# Altium footprint library ST Microcontroller 8-Bit.PcbLib: 97 footprints (part 4 of 7)
Each footprint in its own frame and in the unit in brackets; x right, y up, seen from the top. Pads: shape width x height; smd on the part's side, far side on the other; paste and mask are expansions set on the pad; w line width, h text height; cw(c..) or ccw(c..) is an arc to the next point about the centre after c.
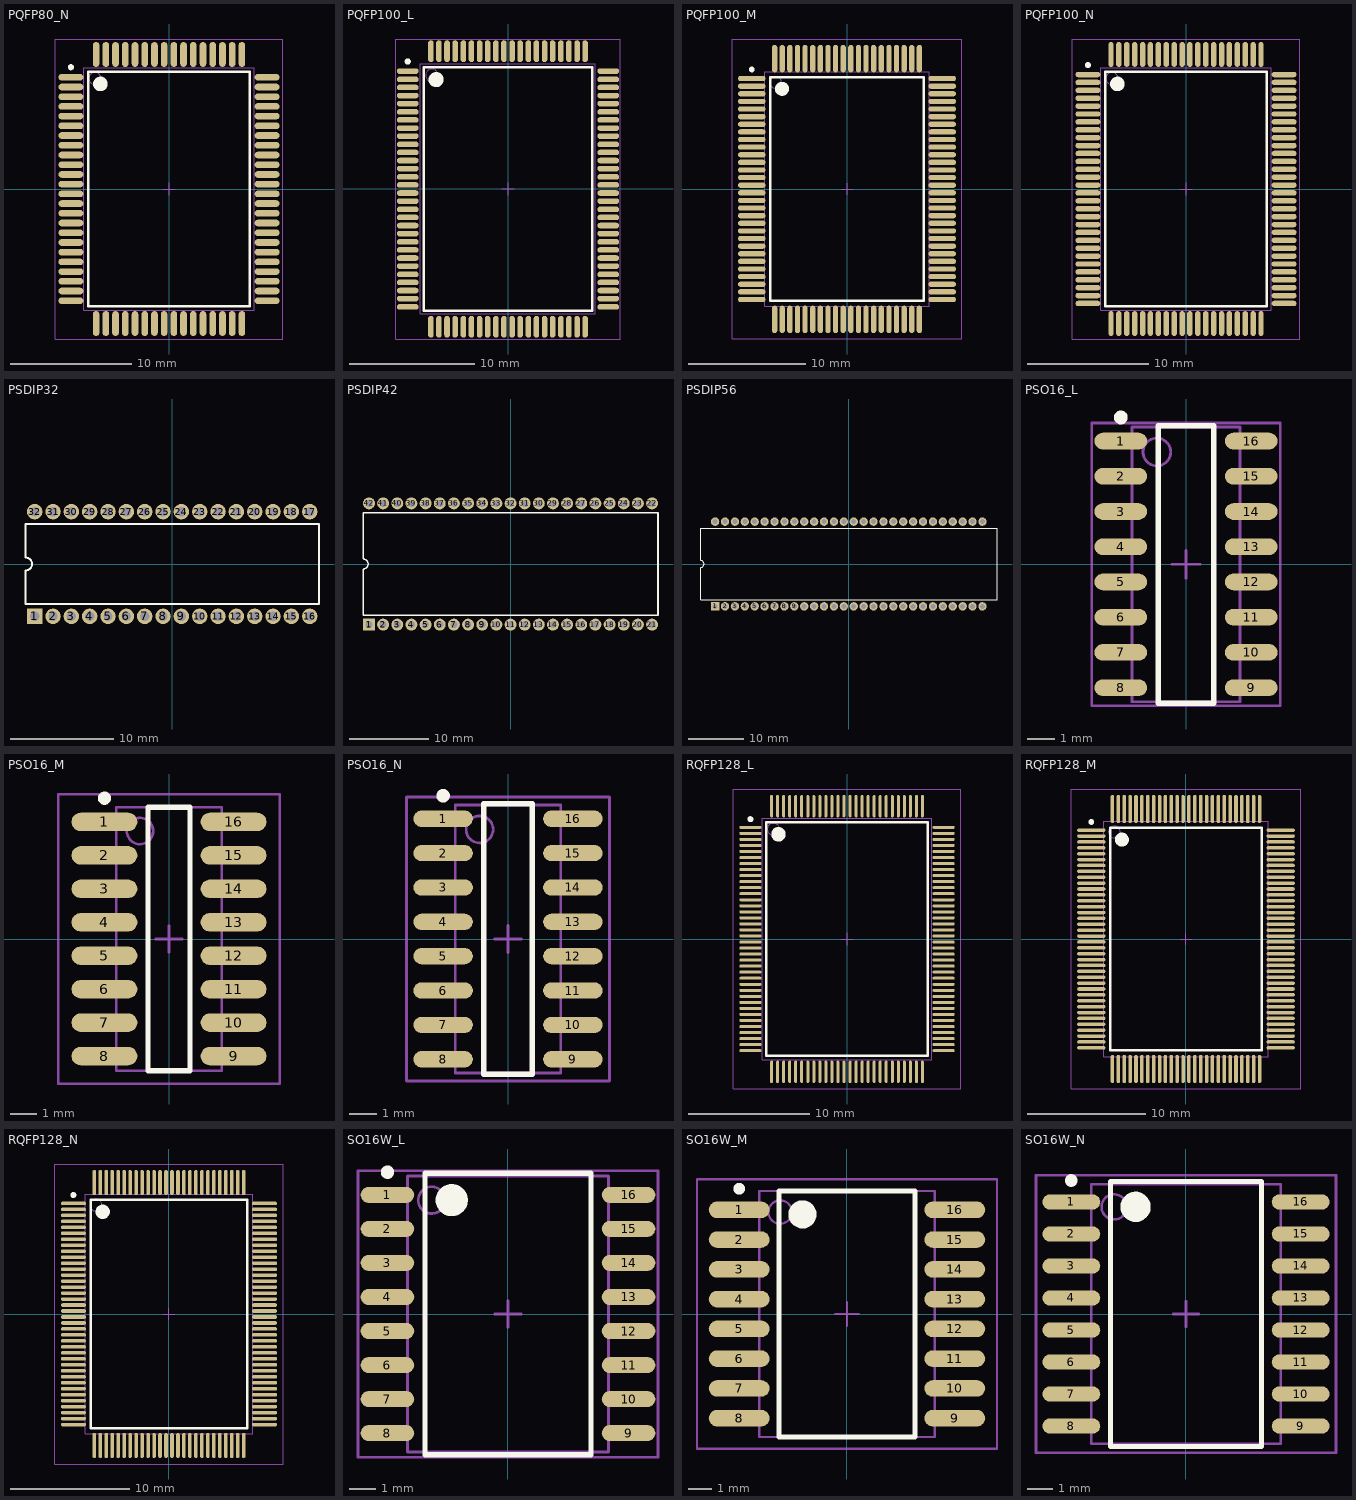
[diagram p3: the footprints below, top view; thin cyan lines are the x and y axes]

## PQFP80_N [mm] "QFP, 80-Leads, Body 20x14mm, Pitch 0.8mm, IPC Medium Density"
height 3.4
pads (80):
  oval 2.05x0.55 smd: 1(-8.075,9.2) 2(-8.075,8.4) 3(-8.075,7.6) 4(-8.075,6.8) 5(-8.075,6) 6(-8.075,5.2) 7(-8.075,4.4) 8(-8.075,3.6) 9(-8.075,2.8) 10(-8.075,2) 11(-8.075,1.2) 12(-8.075,0.4) 13(-8.075,-0.4) 14(-8.075,-1.2) 15(-8.075,-2) 16(-8.075,-2.8) 17(-8.075,-3.6) 18(-8.075,-4.4) 19(-8.075,-5.2) 20(-8.075,-6) 21(-8.075,-6.8) 22(-8.075,-7.6) 23(-8.075,-8.4) 24(-8.075,-9.2) 41(8.075,-9.2) 42(8.075,-8.4) 43(8.075,-7.6) 44(8.075,-6.8) 45(8.075,-6) 46(8.075,-5.2) 47(8.075,-4.4) 48(8.075,-3.6) 49(8.075,-2.8) 50(8.075,-2) 51(8.075,-1.2) 52(8.075,-0.4) 53(8.075,0.4) 54(8.075,1.2) 55(8.075,2) 56(8.075,2.8) 57(8.075,3.6) 58(8.075,4.4) 59(8.075,5.2) 60(8.075,6) 61(8.075,6.8) 62(8.075,7.6) 63(8.075,8.4) 64(8.075,9.2)
  oval 0.55x2.05 smd: 25(-6,-11.075) 26(-5.2,-11.075) 27(-4.4,-11.075) 28(-3.6,-11.075) 29(-2.8,-11.075) 30(-2,-11.075) 31(-1.2,-11.075) 32(-0.4,-11.075) 33(0.4,-11.075) 34(1.2,-11.075) 35(2,-11.075) 36(2.8,-11.075) 37(3.6,-11.075) 38(4.4,-11.075) 39(5.2,-11.075) 40(6,-11.075) 65(6,11.075) 66(5.2,11.075) 67(4.4,11.075) 68(3.6,11.075) 69(2.8,11.075) 70(2,11.075) 71(1.2,11.075) 72(0.4,11.075) 73(-0.4,11.075) 74(-1.2,11.075) 75(-2,11.075) 76(-2.8,11.075) 77(-3.6,11.075) 78(-4.4,11.075) 79(-5.2,11.075) 80(-6,11.075)
Top Overlay:
  circle w0.6: c-5.65,8.65 r0.3
  circle w0.25: c-8.075,10.025 r0.125
  lines w0.2: -6.65,-9.65 6.65,-9.65 6.65,9.65 -6.65,9.65 -6.65,-9.65
Mechanical 13:
  circle w0.1: c-6.1,9.1 r0.5
  lines w0.1: -7,-10 7,-10 7,10 -7,10 -7,-10
Mechanical 15:
  lines w0.1: -0.5,0 0.5,0 ; 0,-0.5 0,0.5 ; -9.35,-12.35 9.35,-12.35 9.35,12.35 -9.35,12.35 -9.35,-12.35
3D body: height 3.4, standoff 0, extent -7,-10 7,10

## PQFP100_L [mm] "QFP, 100-Leads, Body 20x14mm, Pitch 0.65mm, IPC High Density"
height 3.4
pads (100):
  oval 1.75x0.45 smd: 1(-8.025,9.425) 2(-8.025,8.775) 3(-8.025,8.125) 4(-8.025,7.475) 5(-8.025,6.825) 6(-8.025,6.175) 7(-8.025,5.525) 8(-8.025,4.875) 9(-8.025,4.225) 10(-8.025,3.575) 11(-8.025,2.925) 12(-8.025,2.275) 13(-8.025,1.625) 14(-8.025,0.975) 15(-8.025,0.325) 16(-8.025,-0.325) 17(-8.025,-0.975) 18(-8.025,-1.625) 19(-8.025,-2.275) 20(-8.025,-2.925) 21(-8.025,-3.575) 22(-8.025,-4.225) 23(-8.025,-4.875) 24(-8.025,-5.525) 25(-8.025,-6.175) 26(-8.025,-6.825) 27(-8.025,-7.475) 28(-8.025,-8.125) 29(-8.025,-8.775) 30(-8.025,-9.425) 51(8.025,-9.425) 52(8.025,-8.775) 53(8.025,-8.125) 54(8.025,-7.475) 55(8.025,-6.825) 56(8.025,-6.175) 57(8.025,-5.525) 58(8.025,-4.875) 59(8.025,-4.225) 60(8.025,-3.575) 61(8.025,-2.925) 62(8.025,-2.275) 63(8.025,-1.625) 64(8.025,-0.975) 65(8.025,-0.325) 66(8.025,0.325) 67(8.025,0.975) 68(8.025,1.625) 69(8.025,2.275) 70(8.025,2.925) 71(8.025,3.575) 72(8.025,4.225) 73(8.025,4.875) 74(8.025,5.525) 75(8.025,6.175) 76(8.025,6.825) 77(8.025,7.475) 78(8.025,8.125) 79(8.025,8.775) 80(8.025,9.425)
  oval 0.45x1.75 smd: 31(-6.175,-11.025) 32(-5.525,-11.025) 33(-4.875,-11.025) 34(-4.225,-11.025) 35(-3.575,-11.025) 36(-2.925,-11.025) 37(-2.275,-11.025) 38(-1.625,-11.025) 39(-0.975,-11.025) 40(-0.325,-11.025) 41(0.325,-11.025) 42(0.975,-11.025) 43(1.625,-11.025) 44(2.275,-11.025) 45(2.925,-11.025) 46(3.575,-11.025) 47(4.225,-11.025) 48(4.875,-11.025) 49(5.525,-11.025) 50(6.175,-11.025) 81(6.175,11.025) 82(5.525,11.025) 83(4.875,11.025) 84(4.225,11.025) 85(3.575,11.025) 86(2.925,11.025) 87(2.275,11.025) 88(1.625,11.025) 89(0.975,11.025) 90(0.325,11.025) 91(-0.325,11.025) 92(-0.975,11.025) 93(-1.625,11.025) 94(-2.275,11.025) 95(-2.925,11.025) 96(-3.575,11.025) 97(-4.225,11.025) 98(-4.875,11.025) 99(-5.525,11.025) 100(-6.175,11.025)
Top Overlay:
  circle w0.6: c-5.75,8.75 r0.3
  circle w0.25: c-8.025,10.2 r0.125
  lines w0.2: -6.75,-9.75 6.75,-9.75 6.75,9.75 -6.75,9.75 -6.75,-9.75
Mechanical 13:
  circle w0.1: c-6.1,9.1 r0.5
  lines w0.1: -7,-10 7,-10 7,10 -7,10 -7,-10
Mechanical 15:
  lines w0.1: -0.5,0 0.5,0 ; 0,-0.5 0,0.5 ; -9,-12 9,-12 9,12 -9,12 -9,-12
3D body: height 3.4, standoff 0, extent -7,-10 7,10

## PQFP100_M [mm] "QFP, 100-Leads, Body 20x14mm, Pitch 0.65mm, IPC Low Density"
height 3.4
pads (100):
  oval 2.35x0.45 smd: 1(-8.125,9.425) 2(-8.125,8.775) 3(-8.125,8.125) 4(-8.125,7.475) 5(-8.125,6.825) 6(-8.125,6.175) 7(-8.125,5.525) 8(-8.125,4.875) 9(-8.125,4.225) 10(-8.125,3.575) 11(-8.125,2.925) 12(-8.125,2.275) 13(-8.125,1.625) 14(-8.125,0.975) 15(-8.125,0.325) 16(-8.125,-0.325) 17(-8.125,-0.975) 18(-8.125,-1.625) 19(-8.125,-2.275) 20(-8.125,-2.925) 21(-8.125,-3.575) 22(-8.125,-4.225) 23(-8.125,-4.875) 24(-8.125,-5.525) 25(-8.125,-6.175) 26(-8.125,-6.825) 27(-8.125,-7.475) 28(-8.125,-8.125) 29(-8.125,-8.775) 30(-8.125,-9.425) 51(8.125,-9.425) 52(8.125,-8.775) 53(8.125,-8.125) 54(8.125,-7.475) 55(8.125,-6.825) 56(8.125,-6.175) 57(8.125,-5.525) 58(8.125,-4.875) 59(8.125,-4.225) 60(8.125,-3.575) 61(8.125,-2.925) 62(8.125,-2.275) 63(8.125,-1.625) 64(8.125,-0.975) 65(8.125,-0.325) 66(8.125,0.325) 67(8.125,0.975) 68(8.125,1.625) 69(8.125,2.275) 70(8.125,2.925) 71(8.125,3.575) 72(8.125,4.225) 73(8.125,4.875) 74(8.125,5.525) 75(8.125,6.175) 76(8.125,6.825) 77(8.125,7.475) 78(8.125,8.125) 79(8.125,8.775) 80(8.125,9.425)
  oval 0.45x2.35 smd: 31(-6.175,-11.125) 32(-5.525,-11.125) 33(-4.875,-11.125) 34(-4.225,-11.125) 35(-3.575,-11.125) 36(-2.925,-11.125) 37(-2.275,-11.125) 38(-1.625,-11.125) 39(-0.975,-11.125) 40(-0.325,-11.125) 41(0.325,-11.125) 42(0.975,-11.125) 43(1.625,-11.125) 44(2.275,-11.125) 45(2.925,-11.125) 46(3.575,-11.125) 47(4.225,-11.125) 48(4.875,-11.125) 49(5.525,-11.125) 50(6.175,-11.125) 81(6.175,11.125) 82(5.525,11.125) 83(4.875,11.125) 84(4.225,11.125) 85(3.575,11.125) 86(2.925,11.125) 87(2.275,11.125) 88(1.625,11.125) 89(0.975,11.125) 90(0.325,11.125) 91(-0.325,11.125) 92(-0.975,11.125) 93(-1.625,11.125) 94(-2.275,11.125) 95(-2.925,11.125) 96(-3.575,11.125) 97(-4.225,11.125) 98(-4.875,11.125) 99(-5.525,11.125) 100(-6.175,11.125)
Top Overlay:
  circle w0.6: c-5.55,8.55 r0.3
  circle w0.25: c-8.125,10.2 r0.125
  lines w0.2: -6.55,-9.55 6.55,-9.55 6.55,9.55 -6.55,9.55 -6.55,-9.55
Mechanical 13:
  circle w0.1: c-6.1,9.1 r0.5
  lines w0.1: -7,-10 7,-10 7,10 -7,10 -7,-10
Mechanical 15:
  lines w0.1: -0.5,0 0.5,0 ; 0,-0.5 0,0.5 ; -9.8,-12.8 9.8,-12.8 9.8,12.8 -9.8,12.8 -9.8,-12.8
3D body: height 3.4, standoff 0, extent -7,-10 7,10

## PQFP100_N [mm] "QFP, 100-Leads, Body 20x14mm, Pitch 0.65mm, IPC Medium Density"
height 3.4
pads (100):
  oval 2.05x0.45 smd: 1(-8.075,9.425) 2(-8.075,8.775) 3(-8.075,8.125) 4(-8.075,7.475) 5(-8.075,6.825) 6(-8.075,6.175) 7(-8.075,5.525) 8(-8.075,4.875) 9(-8.075,4.225) 10(-8.075,3.575) 11(-8.075,2.925) 12(-8.075,2.275) 13(-8.075,1.625) 14(-8.075,0.975) 15(-8.075,0.325) 16(-8.075,-0.325) 17(-8.075,-0.975) 18(-8.075,-1.625) 19(-8.075,-2.275) 20(-8.075,-2.925) 21(-8.075,-3.575) 22(-8.075,-4.225) 23(-8.075,-4.875) 24(-8.075,-5.525) 25(-8.075,-6.175) 26(-8.075,-6.825) 27(-8.075,-7.475) 28(-8.075,-8.125) 29(-8.075,-8.775) 30(-8.075,-9.425) 51(8.075,-9.425) 52(8.075,-8.775) 53(8.075,-8.125) 54(8.075,-7.475) 55(8.075,-6.825) 56(8.075,-6.175) 57(8.075,-5.525) 58(8.075,-4.875) 59(8.075,-4.225) 60(8.075,-3.575) 61(8.075,-2.925) 62(8.075,-2.275) 63(8.075,-1.625) 64(8.075,-0.975) 65(8.075,-0.325) 66(8.075,0.325) 67(8.075,0.975) 68(8.075,1.625) 69(8.075,2.275) 70(8.075,2.925) 71(8.075,3.575) 72(8.075,4.225) 73(8.075,4.875) 74(8.075,5.525) 75(8.075,6.175) 76(8.075,6.825) 77(8.075,7.475) 78(8.075,8.125) 79(8.075,8.775) 80(8.075,9.425)
  oval 0.45x2.05 smd: 31(-6.175,-11.075) 32(-5.525,-11.075) 33(-4.875,-11.075) 34(-4.225,-11.075) 35(-3.575,-11.075) 36(-2.925,-11.075) 37(-2.275,-11.075) 38(-1.625,-11.075) 39(-0.975,-11.075) 40(-0.325,-11.075) 41(0.325,-11.075) 42(0.975,-11.075) 43(1.625,-11.075) 44(2.275,-11.075) 45(2.925,-11.075) 46(3.575,-11.075) 47(4.225,-11.075) 48(4.875,-11.075) 49(5.525,-11.075) 50(6.175,-11.075) 81(6.175,11.075) 82(5.525,11.075) 83(4.875,11.075) 84(4.225,11.075) 85(3.575,11.075) 86(2.925,11.075) 87(2.275,11.075) 88(1.625,11.075) 89(0.975,11.075) 90(0.325,11.075) 91(-0.325,11.075) 92(-0.975,11.075) 93(-1.625,11.075) 94(-2.275,11.075) 95(-2.925,11.075) 96(-3.575,11.075) 97(-4.225,11.075) 98(-4.875,11.075) 99(-5.525,11.075) 100(-6.175,11.075)
Top Overlay:
  circle w0.6: c-5.65,8.65 r0.3
  circle w0.25: c-8.075,10.2 r0.125
  lines w0.2: -6.65,-9.65 6.65,-9.65 6.65,9.65 -6.65,9.65 -6.65,-9.65
Mechanical 13:
  circle w0.1: c-6.1,9.1 r0.5
  lines w0.1: -7,-10 7,-10 7,10 -7,10 -7,-10
Mechanical 15:
  lines w0.1: -0.5,0 0.5,0 ; 0,-0.5 0,0.5 ; -9.35,-12.35 9.35,-12.35 9.35,12.35 -9.35,12.35 -9.35,-12.35
3D body: height 3.4, standoff 0, extent -7,-10 7,10

## PSDIP32 [mm] "DIP, Plastic Shrink; 32 Leads; Row Spacing 10.16 mm; Pitch 1.78 mm"
height 5.08
pads (32):
  rect 1.5x1.5 hole 0.9: 1(-13.35,-5.08)
  round 1.5 hole 0.9: 2(-11.57,-5.08) 3(-9.79,-5.08) 4(-8.01,-5.08) 5(-6.23,-5.08) 6(-4.45,-5.08) 7(-2.67,-5.08) 8(-0.89,-5.08) 9(0.89,-5.08) 10(2.67,-5.08) 11(4.45,-5.08) 12(6.23,-5.08) 13(8.01,-5.08) 14(9.79,-5.08) 15(11.57,-5.08) 16(13.35,-5.08) 17(13.35,5.08) 18(11.57,5.08) 19(9.79,5.08) 20(8.01,5.08) 21(6.23,5.08) 22(4.45,5.08) 23(2.67,5.08) 24(0.89,5.08) 25(-0.89,5.08) 26(-2.67,5.08) 27(-4.45,5.08) 28(-6.23,5.08) 29(-8.01,5.08) 30(-9.79,5.08) 31(-11.57,5.08) 32(-13.35,5.08)
Top Overlay:
  lines w0.2: -14.25,-0.635 -14.25,-3.9 14.25,-3.9 14.25,3.9 -14.25,3.9 -14.25,0.635 ; -14.24,-0.635 ccw(c-14.24,0) -14.24,0.635

## PSDIP42 [mm] "DIP, Plastic Shrink; 42 Leads; Row Spacing 15.24 mm; Pitch 1.78 mm"
height 5.08
pads (42):
  rect 1.5x1.5 hole 0.9: 1(-17.8,-7.62)
  round 1.5 hole 0.9: 2(-16.02,-7.62) 3(-14.24,-7.62) 4(-12.46,-7.62) 5(-10.68,-7.62) 6(-8.9,-7.62) 7(-7.12,-7.62) 8(-5.34,-7.62) 9(-3.56,-7.62) 10(-1.78,-7.62) 11(0,-7.62) 12(1.78,-7.62) 13(3.56,-7.62) 14(5.34,-7.62) 15(7.12,-7.62) 16(8.9,-7.62) 17(10.68,-7.62) 18(12.46,-7.62) 19(14.24,-7.62) 20(16.02,-7.62) 21(17.8,-7.62) 22(17.8,7.62) 23(16.02,7.62) 24(14.24,7.62) 25(12.46,7.62) 26(10.68,7.62) 27(8.9,7.62) 28(7.12,7.62) 29(5.34,7.62) 30(3.56,7.62) 31(1.78,7.62) 32(0,7.62) 33(-1.78,7.62) 34(-3.56,7.62) 35(-5.34,7.62) 36(-7.12,7.62) 37(-8.9,7.62) 38(-10.68,7.62) 39(-12.46,7.62) 40(-14.24,7.62) 41(-16.02,7.62) 42(-17.8,7.62)
Top Overlay:
  lines w0.2: -18.55,-6.45 18.55,-6.45 18.55,6.45 -18.55,6.45 -18.55,0.635 cw(c-18.55,0) -18.55,-0.635 -18.55,-6.45

## PSDIP56 [mm] "DIP, Plastic Shrink; 56 Leads; Row Spacing 15.24 mm; Pitch 1.78 mm"
height 6.35
pads (56):
  rect 1.5x1.5 hole 0.9: 1(-24.03,-7.62)
  round 1.5 hole 0.9: 2(-22.25,-7.62) 3(-20.47,-7.62) 4(-18.69,-7.62) 5(-16.91,-7.62) 6(-15.13,-7.62) 7(-13.35,-7.62) 8(-11.57,-7.62) 9(-9.79,-7.62) 10(-8.01,-7.62) 11(-6.23,-7.62) 12(-4.45,-7.62) 13(-2.67,-7.62) 14(-0.89,-7.62) 15(0.89,-7.62) 16(2.67,-7.62) 17(4.45,-7.62) 18(6.23,-7.62) 19(8.01,-7.62) 20(9.79,-7.62) 21(11.57,-7.62) 22(13.35,-7.62) 23(15.13,-7.62) 24(16.91,-7.62) 25(18.69,-7.62) 26(20.47,-7.62) 27(22.25,-7.62) 28(24.03,-7.62) 29(24.03,7.62) 30(22.25,7.62) 31(20.47,7.62) 32(18.69,7.62) 33(16.91,7.62) 34(15.13,7.62) 35(13.35,7.62) 36(11.57,7.62) 37(9.79,7.62) 38(8.01,7.62) 39(6.23,7.62) 40(4.45,7.62) 41(2.67,7.62) 42(0.89,7.62) 43(-0.89,7.62) 44(-2.67,7.62) 45(-4.45,7.62) 46(-6.23,7.62) 47(-8.01,7.62) 48(-9.79,7.62) 49(-11.57,7.62) 50(-13.35,7.62) 51(-15.13,7.62) 52(-16.91,7.62) 53(-18.69,7.62) 54(-20.47,7.62) 55(-22.25,7.62) 56(-24.03,7.62)
Top Overlay:
  lines w0.2: -26.65,-6.45 -26.65,-0.635 ccw(c-26.65,0) -26.65,0.635 -26.65,6.45 26.65,6.45 26.65,-6.45 -26.65,-6.45

## PSO16_L [mm] "SOIC, 16-Leads, Body 9.9x3.9mm, Pitch 1.27mm, IPC High Density"
height 1.75
pads (16):
  oval 1.9x0.6 smd: 1(-2.35,4.445) 2(-2.35,3.175) 3(-2.35,1.905) 4(-2.35,0.635) 5(-2.35,-0.635) 6(-2.35,-1.905) 7(-2.35,-3.175) 8(-2.35,-4.445) 9(2.35,-4.445) 10(2.35,-3.175) 11(2.35,-1.905) 12(2.35,-0.635) 13(2.35,0.635) 14(2.35,1.905) 15(2.35,3.175) 16(2.35,4.445)
Top Overlay:
  circle w0.25: c-2.35,5.295 r0.125
  lines w0.2: -1,-5 1,-5 1,5 -1,5 -1,-5
Mechanical 13:
  circle w0.1: c-1.05,4.05 r0.5
  lines w0.1: -1.95,-4.95 1.95,-4.95 1.95,4.95 -1.95,4.95 -1.95,-4.95
Mechanical 15:
  lines w0.1: -0.5,0 0.5,0 ; 0,-0.5 0,0.5 ; -3.4,-5.1 3.4,-5.1 3.4,5.1 -3.4,5.1 -3.4,-5.1
3D body: height 1.75, standoff 0, extent -1.95,-4.95 1.95,4.95

## PSO16_M [mm] "SOIC, 16-Leads, Body 9.9x3.9mm, Pitch 1.27mm, IPC Low Density"
height 1.75
pads (16):
  oval 2.5x0.7 smd: 1(-2.45,4.445) 2(-2.45,3.175) 3(-2.45,1.905) 4(-2.45,0.635) 5(-2.45,-0.635) 6(-2.45,-1.905) 7(-2.45,-3.175) 8(-2.45,-4.445) 9(2.45,-4.445) 10(2.45,-3.175) 11(2.45,-1.905) 12(2.45,-0.635) 13(2.45,0.635) 14(2.45,1.905) 15(2.45,3.175) 16(2.45,4.445)
Top Overlay:
  circle w0.25: c-2.45,5.345 r0.125
  lines w0.2: -0.8,-5 0.8,-5 0.8,5 -0.8,5 -0.8,-5
Mechanical 13:
  circle w0.1: c-1.1,4.1 r0.5
  lines w0.1: -2,-5 2,-5 2,5 -2,5 -2,-5
Mechanical 15:
  lines w0.1: -0.5,0 0.5,0 ; 0,-0.5 0,0.5 ; -4.2,-5.5 4.2,-5.5 4.2,5.5 -4.2,5.5 -4.2,-5.5
3D body: height 1.75, standoff 0, extent -2,-5 2,5

## PSO16_N [mm] "SOIC, 16-Leads, Body 9.9x3.9mm, Pitch 1.27mm, IPC Medium Density"
height 1.75
pads (16):
  oval 2.2x0.6 smd: 1(-2.4,4.445) 2(-2.4,3.175) 3(-2.4,1.905) 4(-2.4,0.635) 5(-2.4,-0.635) 6(-2.4,-1.905) 7(-2.4,-3.175) 8(-2.4,-4.445) 9(2.4,-4.445) 10(2.4,-3.175) 11(2.4,-1.905) 12(2.4,-0.635) 13(2.4,0.635) 14(2.4,1.905) 15(2.4,3.175) 16(2.4,4.445)
Top Overlay:
  circle w0.25: c-2.4,5.295 r0.125
  lines w0.2: -0.9,-5 -0.9,5 0.9,5 0.9,-5 -0.9,-5
Mechanical 13:
  circle w0.1: c-1.05,4.05 r0.5
  lines w0.1: -1.95,-4.95 -1.95,4.95 1.95,4.95 1.95,-4.95 -1.95,-4.95
Mechanical 15:
  lines w0.1: -0.5,0 0.5,0 ; 0,-0.5 0,0.5 ; -3.75,-5.25 -3.75,5.25 3.75,5.25 3.75,-5.25 -3.75,-5.25
3D body: height 1.75, standoff 0, extent -1.95,-4.95 1.95,4.95

## RQFP128_L [mm] "Shrink QFP, 128-Leads, Body 20x14 mm, Pitch 0.5mm, IPC High Density"
height 3.4
pads (128):
  oval 1.85x0.25 smd: 1(-8,9.25) 2(-8,8.75) 3(-8,8.25) 4(-8,7.75) 5(-8,7.25) 6(-8,6.75) 7(-8,6.25) 8(-8,5.75) 9(-8,5.25) 10(-8,4.75) 11(-8,4.25) 12(-8,3.75) 13(-8,3.25) 14(-8,2.75) 15(-8,2.25) 16(-8,1.75) 17(-8,1.25) 18(-8,0.75) 19(-8,0.25) 20(-8,-0.25) 21(-8,-0.75) 22(-8,-1.25) 23(-8,-1.75) 24(-8,-2.25) 25(-8,-2.75) 26(-8,-3.25) 27(-8,-3.75) 28(-8,-4.25) 29(-8,-4.75) 30(-8,-5.25) 31(-8,-5.75) 32(-8,-6.25) 33(-8,-6.75) 34(-8,-7.25) 35(-8,-7.75) 36(-8,-8.25) 37(-8,-8.75) 38(-8,-9.25) 65(8,-9.25) 66(8,-8.75) 67(8,-8.25) 68(8,-7.75) 69(8,-7.25) 70(8,-6.75) 71(8,-6.25) 72(8,-5.75) 73(8,-5.25) 74(8,-4.75) 75(8,-4.25) 76(8,-3.75) 77(8,-3.25) 78(8,-2.75) 79(8,-2.25) 80(8,-1.75) 81(8,-1.25) 82(8,-0.75) 83(8,-0.25) 84(8,0.25) 85(8,0.75) 86(8,1.25) 87(8,1.75) 88(8,2.25) 89(8,2.75) 90(8,3.25) 91(8,3.75) 92(8,4.25) 93(8,4.75) 94(8,5.25) 95(8,5.75) 96(8,6.25) 97(8,6.75) 98(8,7.25) 99(8,7.75) 100(8,8.25) 101(8,8.75) 102(8,9.25)
  oval 0.25x1.85 smd: 39(-6.25,-11) 40(-5.75,-11) 41(-5.25,-11) 42(-4.75,-11) 43(-4.25,-11) 44(-3.75,-11) 45(-3.25,-11) 46(-2.75,-11) 47(-2.25,-11) 48(-1.75,-11) 49(-1.25,-11) 50(-0.75,-11) 51(-0.25,-11) 52(0.25,-11) 53(0.75,-11) 54(1.25,-11) 55(1.75,-11) 56(2.25,-11) 57(2.75,-11) 58(3.25,-11) 59(3.75,-11) 60(4.25,-11) 61(4.75,-11) 62(5.25,-11) 63(5.75,-11) 64(6.25,-11) 103(6.25,11) 104(5.75,11) 105(5.25,11) 106(4.75,11) 107(4.25,11) 108(3.75,11) 109(3.25,11) 110(2.75,11) 111(2.25,11) 112(1.75,11) 113(1.25,11) 114(0.75,11) 115(0.25,11) 116(-0.25,11) 117(-0.75,11) 118(-1.25,11) 119(-1.75,11) 120(-2.25,11) 121(-2.75,11) 122(-3.25,11) 123(-3.75,11) 124(-4.25,11) 125(-4.75,11) 126(-5.25,11) 127(-5.75,11) 128(-6.25,11)
Top Overlay:
  circle w0.6: c-5.675,8.675 r0.3
  circle w0.25: c-8,9.925 r0.125
  lines w0.2: -6.675,-9.675 6.675,-9.675 6.675,9.675 -6.675,9.675 -6.675,-9.675
Mechanical 13:
  circle w0.1: c-6.1,9.1 r0.5
  lines w0.1: -7,-10 7,-10 7,10 -7,10 -7,-10
Mechanical 15:
  lines w0.1: -0.5,0 0.5,0 ; 0,-0.5 0,0.5 ; -9.425,-12.425 9.425,-12.425 9.425,12.425 -9.425,12.425 -9.425,-12.425
3D body: height 3.4, standoff 0, extent -7,-10 7,10

## RQFP128_M [mm] "Shrink QFP, 128-Leads, Body 20x14 mm, Pitch 0.5mm, IPC Low Density"
height 3.4
pads (128):
  oval 2.4x0.3 smd: 1(-8.05,9.25) 2(-8.05,8.75) 3(-8.05,8.25) 4(-8.05,7.75) 5(-8.05,7.25) 6(-8.05,6.75) 7(-8.05,6.25) 8(-8.05,5.75) 9(-8.05,5.25) 10(-8.05,4.75) 11(-8.05,4.25) 12(-8.05,3.75) 13(-8.05,3.25) 14(-8.05,2.75) 15(-8.05,2.25) 16(-8.05,1.75) 17(-8.05,1.25) 18(-8.05,0.75) 19(-8.05,0.25) 20(-8.05,-0.25) 21(-8.05,-0.75) 22(-8.05,-1.25) 23(-8.05,-1.75) 24(-8.05,-2.25) 25(-8.05,-2.75) 26(-8.05,-3.25) 27(-8.05,-3.75) 28(-8.05,-4.25) 29(-8.05,-4.75) 30(-8.05,-5.25) 31(-8.05,-5.75) 32(-8.05,-6.25) 33(-8.05,-6.75) 34(-8.05,-7.25) 35(-8.05,-7.75) 36(-8.05,-8.25) 37(-8.05,-8.75) 38(-8.05,-9.25) 65(8.05,-9.25) 66(8.05,-8.75) 67(8.05,-8.25) 68(8.05,-7.75) 69(8.05,-7.25) 70(8.05,-6.75) 71(8.05,-6.25) 72(8.05,-5.75) 73(8.05,-5.25) 74(8.05,-4.75) 75(8.05,-4.25) 76(8.05,-3.75) 77(8.05,-3.25) 78(8.05,-2.75) 79(8.05,-2.25) 80(8.05,-1.75) 81(8.05,-1.25) 82(8.05,-0.75) 83(8.05,-0.25) 84(8.05,0.25) 85(8.05,0.75) 86(8.05,1.25) 87(8.05,1.75) 88(8.05,2.25) 89(8.05,2.75) 90(8.05,3.25) 91(8.05,3.75) 92(8.05,4.25) 93(8.05,4.75) 94(8.05,5.25) 95(8.05,5.75) 96(8.05,6.25) 97(8.05,6.75) 98(8.05,7.25) 99(8.05,7.75) 100(8.05,8.25) 101(8.05,8.75) 102(8.05,9.25)
  oval 0.3x2.4 smd: 39(-6.25,-11.05) 40(-5.75,-11.05) 41(-5.25,-11.05) 42(-4.75,-11.05) 43(-4.25,-11.05) 44(-3.75,-11.05) 45(-3.25,-11.05) 46(-2.75,-11.05) 47(-2.25,-11.05) 48(-1.75,-11.05) 49(-1.25,-11.05) 50(-0.75,-11.05) 51(-0.25,-11.05) 52(0.25,-11.05) 53(0.75,-11.05) 54(1.25,-11.05) 55(1.75,-11.05) 56(2.25,-11.05) 57(2.75,-11.05) 58(3.25,-11.05) 59(3.75,-11.05) 60(4.25,-11.05) 61(4.75,-11.05) 62(5.25,-11.05) 63(5.75,-11.05) 64(6.25,-11.05) 103(6.25,11.05) 104(5.75,11.05) 105(5.25,11.05) 106(4.75,11.05) 107(4.25,11.05) 108(3.75,11.05) 109(3.25,11.05) 110(2.75,11.05) 111(2.25,11.05) 112(1.75,11.05) 113(1.25,11.05) 114(0.75,11.05) 115(0.25,11.05) 116(-0.25,11.05) 117(-0.75,11.05) 118(-1.25,11.05) 119(-1.75,11.05) 120(-2.25,11.05) 121(-2.75,11.05) 122(-3.25,11.05) 123(-3.75,11.05) 124(-4.25,11.05) 125(-4.75,11.05) 126(-5.25,11.05) 127(-5.75,11.05) 128(-6.25,11.05)
Top Overlay:
  circle w0.6: c-5.45,8.45 r0.3
  circle w0.25: c-8.05,9.95 r0.125
  lines w0.2: -6.45,-9.45 6.45,-9.45 6.45,9.45 -6.45,9.45 -6.45,-9.45
Mechanical 13:
  circle w0.1: c-6.1,9.1 r0.5
  lines w0.1: -7,-10 7,-10 7,10 -7,10 -7,-10
Mechanical 15:
  lines w0.1: -0.5,0 0.5,0 ; 0,-0.5 0,0.5 ; -9.75,-12.75 9.75,-12.75 9.75,12.75 -9.75,12.75 -9.75,-12.75
3D body: height 3.4, standoff 0, extent -7,-10 7,10

## RQFP128_N [mm] "Shrink QFP, 128-Leads, Body 20x14 mm, Pitch 0.5mm, IPC Medium Density"
height 3.4
pads (128):
  oval 2.1x0.3 smd: 1(-8,9.25) 2(-8,8.75) 3(-8,8.25) 4(-8,7.75) 5(-8,7.25) 6(-8,6.75) 7(-8,6.25) 8(-8,5.75) 9(-8,5.25) 10(-8,4.75) 11(-8,4.25) 12(-8,3.75) 13(-8,3.25) 14(-8,2.75) 15(-8,2.25) 16(-8,1.75) 17(-8,1.25) 18(-8,0.75) 19(-8,0.25) 20(-8,-0.25) 21(-8,-0.75) 22(-8,-1.25) 23(-8,-1.75) 24(-8,-2.25) 25(-8,-2.75) 26(-8,-3.25) 27(-8,-3.75) 28(-8,-4.25) 29(-8,-4.75) 30(-8,-5.25) 31(-8,-5.75) 32(-8,-6.25) 33(-8,-6.75) 34(-8,-7.25) 35(-8,-7.75) 36(-8,-8.25) 37(-8,-8.75) 38(-8,-9.25) 65(8,-9.25) 66(8,-8.75) 67(8,-8.25) 68(8,-7.75) 69(8,-7.25) 70(8,-6.75) 71(8,-6.25) 72(8,-5.75) 73(8,-5.25) 74(8,-4.75) 75(8,-4.25) 76(8,-3.75) 77(8,-3.25) 78(8,-2.75) 79(8,-2.25) 80(8,-1.75) 81(8,-1.25) 82(8,-0.75) 83(8,-0.25) 84(8,0.25) 85(8,0.75) 86(8,1.25) 87(8,1.75) 88(8,2.25) 89(8,2.75) 90(8,3.25) 91(8,3.75) 92(8,4.25) 93(8,4.75) 94(8,5.25) 95(8,5.75) 96(8,6.25) 97(8,6.75) 98(8,7.25) 99(8,7.75) 100(8,8.25) 101(8,8.75) 102(8,9.25)
  oval 0.3x2.1 smd: 39(-6.25,-11) 40(-5.75,-11) 41(-5.25,-11) 42(-4.75,-11) 43(-4.25,-11) 44(-3.75,-11) 45(-3.25,-11) 46(-2.75,-11) 47(-2.25,-11) 48(-1.75,-11) 49(-1.25,-11) 50(-0.75,-11) 51(-0.25,-11) 52(0.25,-11) 53(0.75,-11) 54(1.25,-11) 55(1.75,-11) 56(2.25,-11) 57(2.75,-11) 58(3.25,-11) 59(3.75,-11) 60(4.25,-11) 61(4.75,-11) 62(5.25,-11) 63(5.75,-11) 64(6.25,-11) 103(6.25,11) 104(5.75,11) 105(5.25,11) 106(4.75,11) 107(4.25,11) 108(3.75,11) 109(3.25,11) 110(2.75,11) 111(2.25,11) 112(1.75,11) 113(1.25,11) 114(0.75,11) 115(0.25,11) 116(-0.25,11) 117(-0.75,11) 118(-1.25,11) 119(-1.75,11) 120(-2.25,11) 121(-2.75,11) 122(-3.25,11) 123(-3.75,11) 124(-4.25,11) 125(-4.75,11) 126(-5.25,11) 127(-5.75,11) 128(-6.25,11)
Top Overlay:
  circle w0.6: c-5.55,8.55 r0.3
  circle w0.25: c-8,9.95 r0.125
  lines w0.2: -6.55,-9.55 6.55,-9.55 6.55,9.55 -6.55,9.55 -6.55,-9.55
Mechanical 13:
  circle w0.1: c-6.1,9.1 r0.5
  lines w0.1: -7,-10 7,-10 7,10 -7,10 -7,-10
Mechanical 15:
  lines w0.1: -0.5,0 0.5,0 ; 0,-0.5 0,0.5 ; -9.55,-12.55 9.55,-12.55 9.55,12.55 -9.55,12.55 -9.55,-12.55
3D body: height 3.4, standoff 0, extent -7,-10 7,10

## SO16W_L [mm] "SOIC, 16-Leads, Body 10.3x7.5mm, Pitch 1.27mm, IPC High Density"
height 2.65
pads (16):
  oval 2x0.6 smd: 1(-4.5,4.445) 2(-4.5,3.175) 3(-4.5,1.905) 4(-4.5,0.635) 5(-4.5,-0.635) 6(-4.5,-1.905) 7(-4.5,-3.175) 8(-4.5,-4.445) 9(4.5,-4.445) 10(4.5,-3.175) 11(4.5,-1.905) 12(4.5,-0.635) 13(4.5,0.635) 14(4.5,1.905) 15(4.5,3.175) 16(4.5,4.445)
Top Overlay:
  circle w0.25: c-4.5,5.295 r0.125
  circle w0.6: c-2.1,4.25 r0.3
  lines w0.2: -3.1,-5.25 -3.1,5.25 3.1,5.25 3.1,-5.25 -3.1,-5.25
Mechanical 13:
  circle w0.1: c-2.85,4.25 r0.5
  lines w0.1: -3.75,-5.15 -3.75,5.15 3.75,5.15 3.75,-5.15 -3.75,-5.15
Mechanical 15:
  lines w0.1: -0.5,0 0.5,0 ; 0,-0.5 0,0.5 ; -5.6,-5.35 -5.6,5.35 5.6,5.35 5.6,-5.35 -5.6,-5.35
3D body: height 2.65, standoff 0, extent -3.75,-5.15 3.75,5.15

## SO16W_M [mm] "SOIC, 16-Leads, Body 10.3x7.5mm, Pitch 1.27mm, IPC Low Density"
height 2.65
pads (16):
  oval 2.6x0.7 smd: 1(-4.6,4.445) 2(-4.6,3.175) 3(-4.6,1.905) 4(-4.6,0.635) 5(-4.6,-0.635) 6(-4.6,-1.905) 7(-4.6,-3.175) 8(-4.6,-4.445) 9(4.6,-4.445) 10(4.6,-3.175) 11(4.6,-1.905) 12(4.6,-0.635) 13(4.6,0.635) 14(4.6,1.905) 15(4.6,3.175) 16(4.6,4.445)
Top Overlay:
  circle w0.25: c-4.6,5.345 r0.125
  circle w0.6: c-1.9,4.25 r0.3
  lines w0.2: -2.9,-5.25 -2.9,5.25 2.9,5.25 2.9,-5.25 -2.9,-5.25
Mechanical 13:
  circle w0.1: c-2.85,4.35 r0.5
  lines w0.1: -3.75,-5.25 -3.75,5.25 3.75,5.25 3.75,-5.25 -3.75,-5.25
Mechanical 15:
  lines w0.1: -0.5,0 0.5,0 ; 0,-0.5 0,0.5 ; -6.4,-5.75 -6.4,5.75 6.4,5.75 6.4,-5.75 -6.4,-5.75
3D body: height 2.65, standoff 0, extent -3.75,-5.25 3.75,5.25

## SO16W_N [mm] "SOIC, 16-Leads, Body 10.3x7.5mm, Pitch 1.27mm, IPC Medium Density"
height 2.65
pads (16):
  oval 2.3x0.6 smd: 1(-4.55,4.445) 2(-4.55,3.175) 3(-4.55,1.905) 4(-4.55,0.635) 5(-4.55,-0.635) 6(-4.55,-1.905) 7(-4.55,-3.175) 8(-4.55,-4.445) 9(4.55,-4.445) 10(4.55,-3.175) 11(4.55,-1.905) 12(4.55,-0.635) 13(4.55,0.635) 14(4.55,1.905) 15(4.55,3.175) 16(4.55,4.445)
Top Overlay:
  circle w0.25: c-4.55,5.295 r0.125
  circle w0.6: c-2,4.25 r0.3
  lines w0.2: -3,-5.25 -3,5.25 3,5.25 3,-5.25 -3,-5.25
Mechanical 13:
  circle w0.1: c-2.85,4.25 r0.5
  lines w0.1: -3.75,-5.15 -3.75,5.15 3.75,5.15 3.75,-5.15 -3.75,-5.15
Mechanical 15:
  lines w0.1: -0.5,0 0.5,0 ; 0,-0.5 0,0.5 ; -5.95,-5.5 -5.95,5.5 5.95,5.5 5.95,-5.5 -5.95,-5.5
3D body: height 2.65, standoff 0, extent -3.75,-5.15 3.75,5.15